# Altium schematic symbol library LMR62421.SchLib: 2 symbols
Pins are listed as number, name and electrical type; pins without a type are passive.

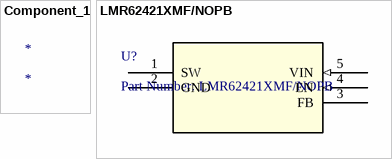
[diagram p0: symbols Component_1 to LMR62421XMF/NOPB]

## Component_1
designator *

## LMR62421XMF/NOPB
designator U?, comment Part Number: LMR62421XMF/NOPB
No Description Available; Vendor: Texas Instruments; Built_By: EMA_UL_Team; Manufacturer_Part_Number: LMR62421XMF/NOPB; Copyright: Copyright (C) 2018 Accelerated Designs. All rights reserved; RefDes: RefDes; Type: DEV; Value: Value
footprint DBV5
pins: 1 SW, 2 GND (power), 3 FB, 4 EN (in), 5 VIN (in)